# Altium schematic symbol library Diodes.SchLib: 8 symbols
Pins are listed as number, name and electrical type; pins without a type are passive.

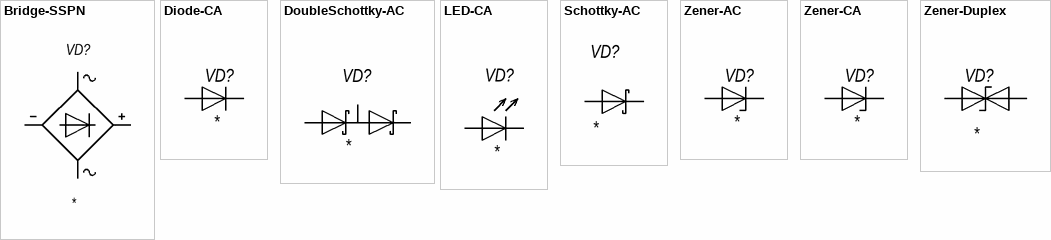
[diagram p0: symbols Bridge-SSPN to Zener-Duplex]

## Bridge-SSPN
designator VD?
pins: 1, 2, 3, 4

## Diode-CA
designator VD?
pins: 1, 2

## DoubleSchottky-AC
designator VD?
pins: 1, 2, 3

## LED-CA
designator VD?
pins: 1, 2

## Schottky-AC
designator VD?
pins: 1, 2

## Zener-AC
designator VD?
pins: 1 Anode, 2 Cathode

## Zener-CA
designator VD?
pins: 1 Cathode, 2 Anode

## Zener-Duplex
designator VD?
pins: 1, 2